# Altium footprint library 691210910003.PcbLib: 1 footprints
Each footprint in its own frame and in the unit in brackets; x right, y up, seen from the top. Pads: shape width x height; smd on the part's side, far side on the other; paste and mask are expansions set on the pad; w line width, h text height; cw(c..) or ccw(c..) is an arc to the next point about the centre after c.
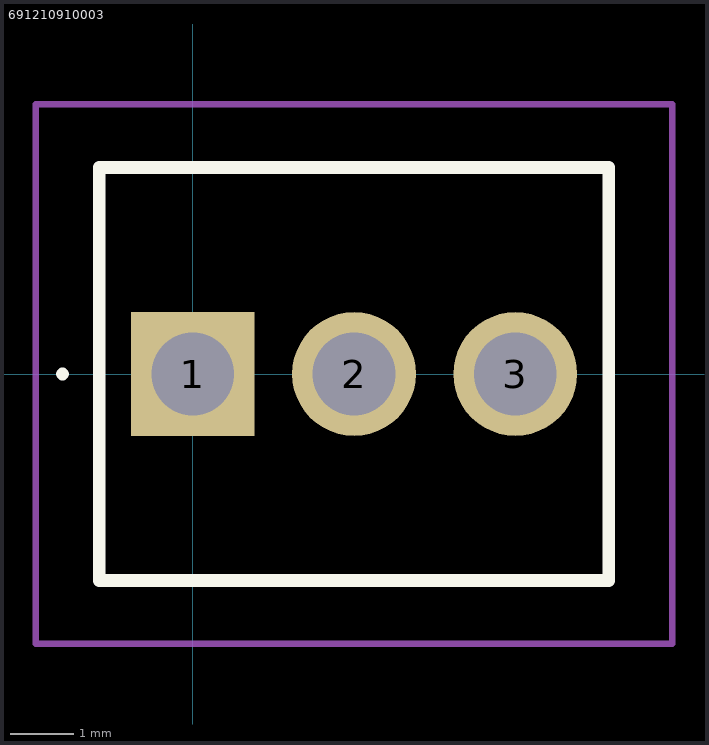
[diagram p0: the footprint, top view; thin cyan lines are the x and y axes]

## 691210910003 [mm]
pads (3):
  rect 1.95x1.95 hole 1.3: 1(0,0)
  round 1.95 hole 1.3: 2(2.54,0) 3(5.08,0)
Top Overlay:
  lines w0.1: -2.1,0 -2.1,0 ; -2.1,0 ccw(c-2.05,0) -2,0 ; -2.1,0 cw(c-2.05,0) -2,0 ; -2,0 -2,0
  lines w0.2: -1.47,-3.25 6.55,-3.25 6.55,3.25 -1.47,3.25 -1.47,-3.25
Mechanical 15:
  lines w0.1: -1.47,-3.25 6.55,-3.25 6.55,3.25 -1.47,3.25 -1.47,-3.25
Mechanical 20:
  lines w0.1: -2.47,-4.25 7.55,-4.25 7.55,4.25 -2.47,4.25 -2.47,-4.25